# Altium schematic symbol library 17-Relays 继电器.SchLib: 79 symbols
Pins are listed as number, name and electrical type; pins without a type are passive.

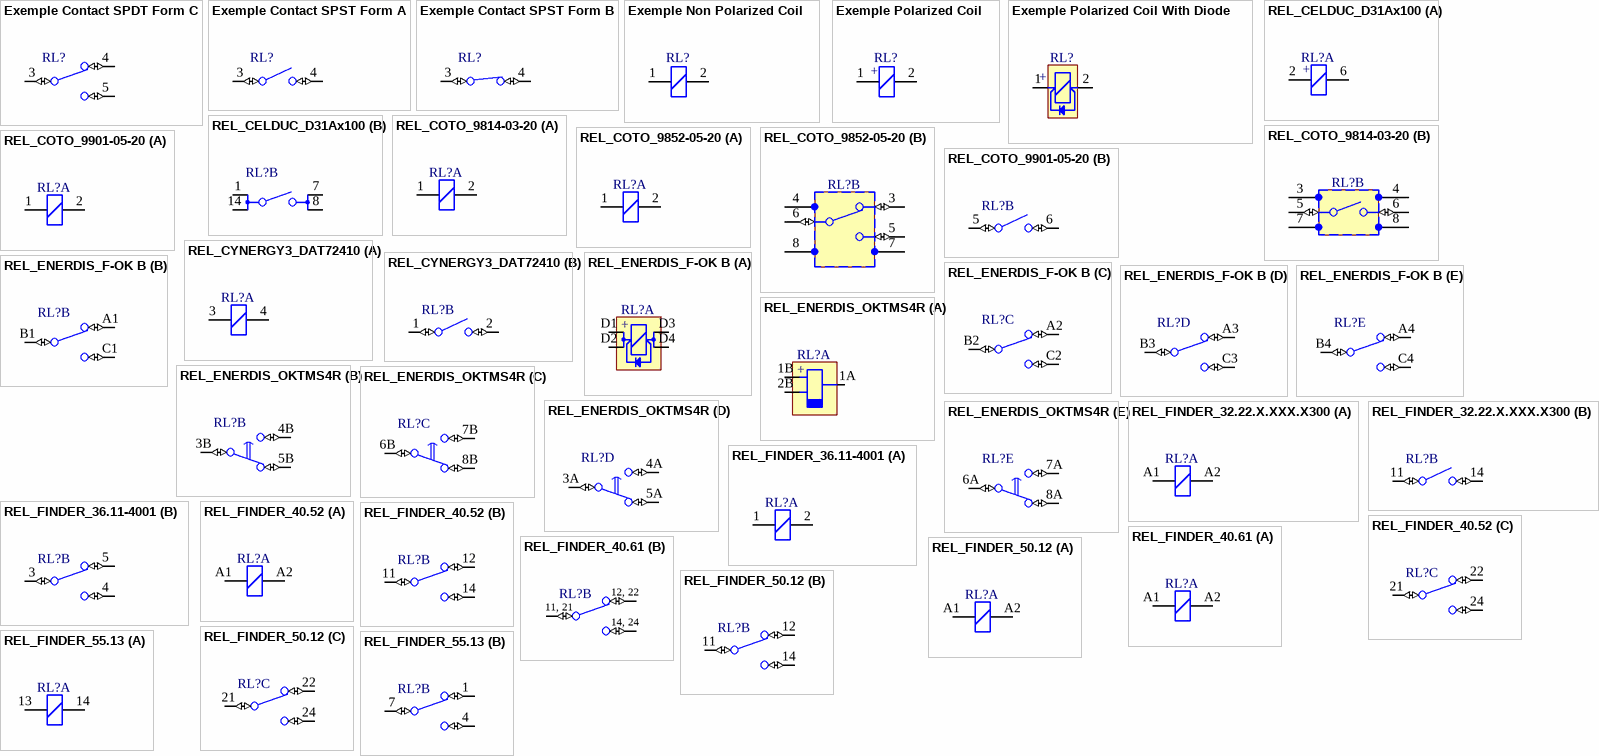
[diagram p0: symbols Exemple Contact SPDT Form C to REL_FINDER_55.13]

## Exemple Contact SPDT Form C
designator RL?  (value not drawn)
Contact : Single Pole Double Throw Form C
pins: 3 C (io), 4 NC (io), 5 NO (io)

## Exemple Contact SPST Form A
designator RL?  (value not drawn)
Contact : Single Pole Single Throw Form A
pins: 3 C (io), 4 NO (io)

## Exemple Contact SPST Form B
designator RL?  (value not drawn)
Contact : Single Pole Single Throw Form B
pins: 3 C (io), 4 NC (io)

## Exemple Non Polarized Coil
designator RL?
Polarized Coil
pins: 1 BO+, 2 BO-

## Exemple Polarized Coil
designator RL?
Polarized Coil
pins: 1, 2
text: +

## Exemple Polarized Coil With Diode
designator RL?
Polarized Coil With Diode
pins: 1, 2
text: +

## REL_CELDUC_D31Ax100
designator RL?  (value not drawn)
Dual In-Line Reed SPST Form A Relays
part A pins: 2, 6
part B pins: 1 C (io), 7 NC (io), 8 NC (io), 14 C (io)
part A text: +

## REL_COTO_9814-03-20
designator RL?  (value not drawn)
SMD SPST Reed Relay  (J-Lead Version)
part A pins: 1, 2
part B pins: 3, 4, 5 (io), 6 (io), 7, 8

## REL_COTO_9852-05-20
designator RL?  (value not drawn)
SMD SPDT Reed Relay  (J-Lead Version)
part A pins: 1, 2
part B pins: 3 (io), 4, 5 (io), 6 (io), 7, 8

## REL_COTO_9901-05-20
designator RL?  (value not drawn)
SMD SPST Reed Relay  (J-Lead Version)
part A pins: 1, 2
part B pins: 5 (io), 6 (io)

## REL_CYNERGY3_DAT72410
designator RL?  (value not drawn)
10kV 50W High Voltage Reed Relays
part A pins: 3, 4
part B pins: 1 (io), 2 (io)

## REL_ENERDIS_F-OK B
designator RL?  (value not drawn)
10A, Plug-in Relays with 4 Double-Break Changeover Contacts, ENERDIS F-OK Serie
part A pins: D1, D2, D3, D4
part B pins: A1 (io), B1 (io), C1 (io)
part C pins: A2 (io), B2 (io), C2 (io)
part D pins: A3 (io), B3 (io), C3 (io)
part E pins: A4 (io), B4 (io), C4 (io)
part A text: +

## REL_ENERDIS_OKTMS4R
designator RL?  (value not drawn)
10A, 4 Changeover Contacts, Programmable Off Time-Delay Relay, ENERDIS OK tms Serie
part A pins: 1A, 1B, 2B
part B pins: 3B (io), 4B (io), 5B (io)
part C pins: 6B (io), 7B (io), 8B (io)
part D pins: 3A (io), 4A (io), 5A (io)
part E pins: 6A (io), 7A (io), 8A (io)
part A text: +

## REL_FINDER_32.22.X.XXX.X300
designator RL?  (value not drawn)
1 NO (SPST-NO), 6 A PCB Mount Subminiature Relays, 32 Serie
part A pins: A1, A2
part B pins: 11 (io), 14 (io)

## REL_FINDER_36.11-4001
designator RL?  (value not drawn)
10A SPDT PCB Relay, 36 Serie
part A pins: 1 COIL, 2 COIL
part B pins: 3 C (io), 4 NO (io), 5 NC (io)

## REL_FINDER_40.52
designator RL?  (value not drawn)
16A DPDT PCB Relay, 40.52 Serie
part A pins: A1 COIL, A2 COIL
part B pins: 11 C (io), 12 NC (io), 14 NO (io)
part C pins: 21 C (io), 22 NC (io), 24 NO (io)

## REL_FINDER_40.61
designator RL?  (value not drawn)
16A SPDT PCB Relay, 40.61 Serie
part A pins: A1 COIL, A2 COIL
part B pins: 11 C (io), 12 NC (io), 14 NO (io), 21 C (io), 22 NC (io), 24 NO (io)
part B text: 12, 22; 11, 21; 14, 24

## REL_FINDER_50.12
designator RL?  (value not drawn)
8A 2 Pole PCB Relay, 50.12 Serie
part A pins: A1 COIL, A2 COIL
part B pins: 11 C (io), 12 NC (io), 14 NO (io)
part C pins: 21 C (io), 22 NC (io), 24 NO (io)

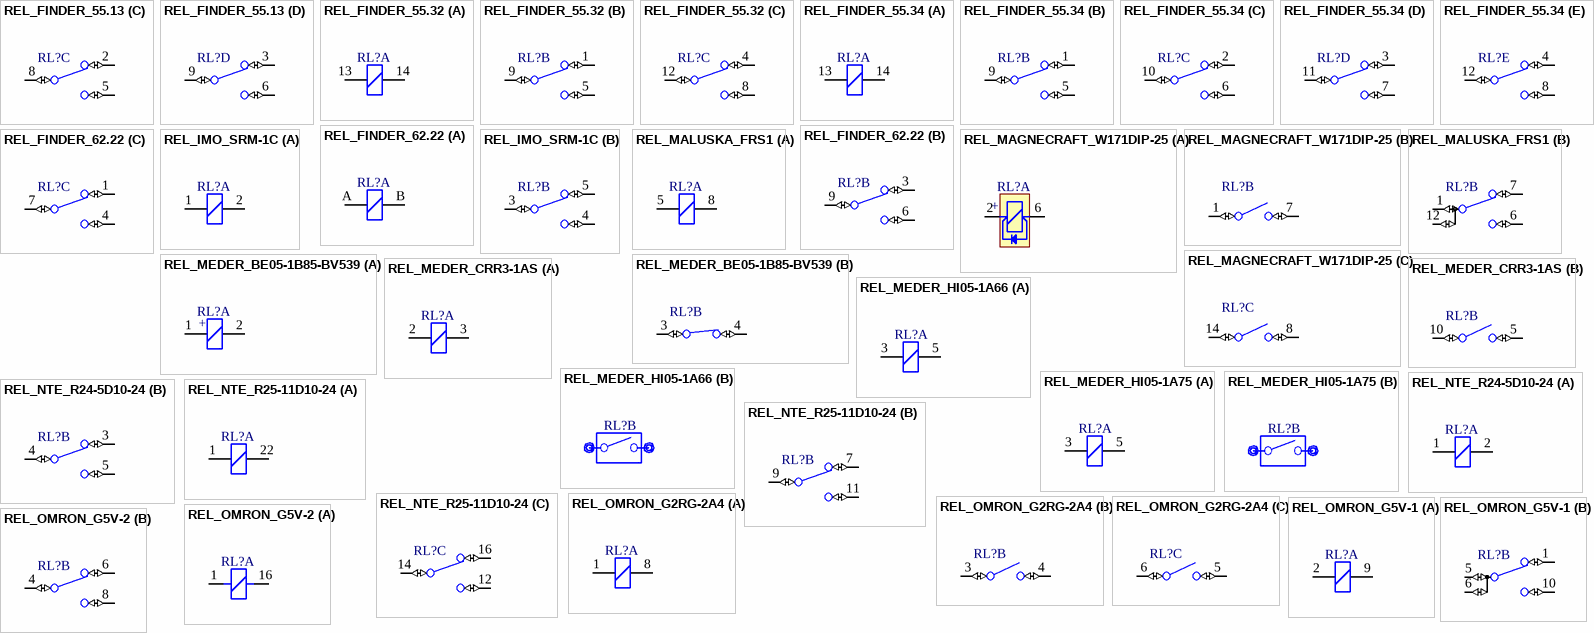
[diagram p1: symbols REL_FINDER_55.13 to REL_OMRON_G5V-2]

## REL_FINDER_55.13
designator RL?  (value not drawn)
10A, 3xSPDT General Purpose Relay, 55 Serie
part A pins: 13 COIL, 14 COIL
part B pins: 1 NC (io), 4 NO (io), 7 C (io)
part C pins: 2 NC (io), 5 NO (io), 8 C (io)
part D pins: 3 NC (io), 6 NO (io), 9 C (io)

## REL_FINDER_55.32
designator RL?  (value not drawn)
DPDT General Purpose Relay, 55.32 Serie (Must be Used with FINDER 94.12 Socket)
part A pins: 13 A1, 14 A2
part B pins: 1 12 (io), 5 14 (io), 9 11 (io)
part C pins: 4 42 (io), 8 44 (io), 12 41 (io)

## REL_FINDER_55.34
designator RL?  (value not drawn)
DPDT General Purpose Relay, 55.34 Serie (Must be Used with FINDER 94.14 Socket)
part A pins: 13 A1, 14 A2
part B pins: 1 12 (io), 5 14 (io), 9 11 (io)
part C pins: 2 22 (io), 6 24 (io), 10 21 (io)
part D pins: 3 32 (io), 7 34 (io), 11 31 (io)
part E pins: 4 42 (io), 8 44 (io), 12 41 (io)

## REL_FINDER_62.22
designator RL?  (value not drawn)
16A, DPDT Power Relay, 62.22 Serie
part A pins: A COIL, B COIL
part B pins: 3 NC (io), 6 NO (io), 9 C (io)
part C pins: 1 NC (io), 4 NO (io), 7 C (io)

## REL_IMO_SRM-1C
designator RL?  (value not drawn)
10A SPDT PCB Relay, SMR Serie
part A pins: 1 COIL, 2 COIL
part B pins: 3 C (io), 4 NO (io), 5 NC (io)

## REL_MAGNECRAFT_W171DIP-25
designator RL?  (value not drawn)
DPST-NO Magnecraft® PCB & Reed Relay, 171DIP Serie
part A pins: 2 CO+, 6 CO-
part B pins: 1 C (io), 7 NO (io)
part C pins: 8 NO (io), 14 C (io)
part A text: +

## REL_MALUSKA_FRS1
designator RL?  (value not drawn)
SPDT PCB Relay
part A pins: 5, 8
part B pins: 1 C (io), 6 NO (io), 7 NC (io), 12 C (io)

## REL_MEDER_BE05-1B85-BV539
designator RL?  (value not drawn)
1 Form B (SPST Normaly Close) Reed Relay
part A pins: 1 COIL+, 2 COIL-
part B pins: 3 C (io), 4 NC (io)
part A text: +

## REL_MEDER_CRR3-1AS
designator RL?  (value not drawn)
SMD SPST Reed Relay  (BGA Pin Version)
part A pins: 2, 3
part B pins: 5 (io), 10 (io)

## REL_MEDER_HI05-1A66
designator RL?  (value not drawn)
High Insulation Reed Relay
pins on every part: 4 (io) hidden, 6 hidden
part A pins: 3 B1, 5 B2

## REL_MEDER_HI05-1A75
designator RL?  (value not drawn)
High Insulation Reed Relay
pins on every part: 4 (io) hidden, 6 hidden
part A pins: 3 B1, 5 B2

## REL_NTE_R24-5D10-24
designator RL?  (value not drawn)
10A SPDT PCB Relay, R24 Serie
part A pins: 1 COIL, 2 COIL
part B pins: 3 NC (io), 4 C (io), 5 NO (io)

## REL_NTE_R25-11D10-24
designator RL?  (value not drawn)
10A DPDT PCB Relay, R25 Serie
part A pins: 1 COIL, 22 COIL
part B pins: 7 NC (io), 9 C (io), 11 NO (io)
part C pins: 12 NO (io), 14 C (io), 16 NC (io)

## REL_OMRON_G2RG-2A4
designator RL?  (value not drawn)
DPST-NO Power Relay, G2RG Serie
part A pins: 1, 8
part B pins: 3 C (io), 4 NO (io)
part C pins: 5 NO (io), 6 C (io)

## REL_OMRON_G5V-1
designator RL?  (value not drawn)
SPDT PCB Relay
part A pins: 2, 9
part B pins: 1 NC (io), 5 C (io), 6 C (io), 10 NO (io)

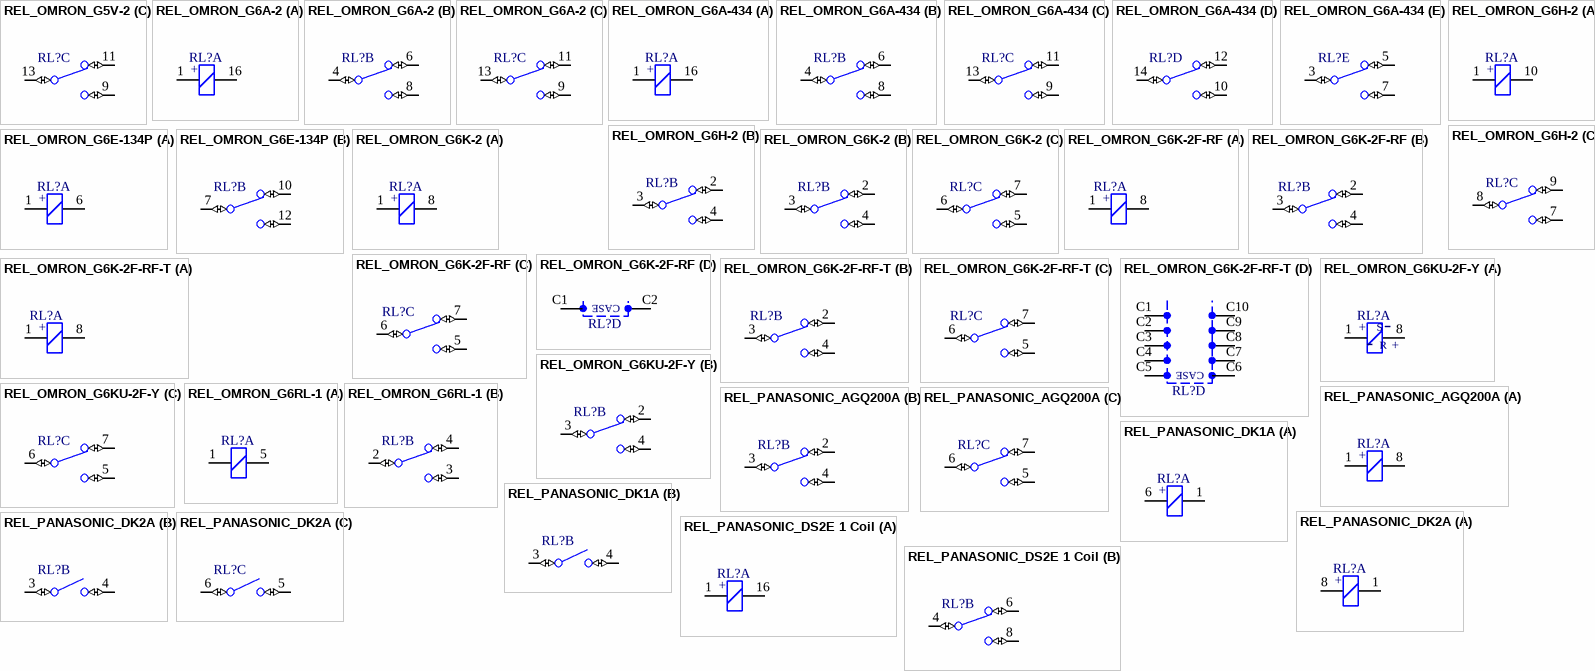
[diagram p2: symbols REL_OMRON_G5V-2 to REL_PANASONIC_DS2E 1 Coil]

## REL_OMRON_G5V-2
designator RL?  (value not drawn)
Miniature Relay for Signal Circuits
part A pins: 1, 16
part B pins: 4 C (io), 6 NC (io), 8 NO (io)
part C pins: 9 NO (io), 11 NC (io), 13 C (io)

## REL_OMRON_G6A-2
designator RL?  (value not drawn)
DPDT High Sensitivity Signal Relay, G6A-2 Serie
part A pins: 1, 16
part B pins: 4 C (io), 6 NC (io), 8 NO (io)
part C pins: 9 NO (io), 11 NC (io), 13 C (io)
part A text: +

## REL_OMRON_G6A-434
designator RL?  (value not drawn)
4PDT, Single-Side Stable, Plastic-sealed Relay, G6A-434 Model
part A pins: 1, 16
part B pins: 4 C (io), 6 NC (io), 8 NO (io)
part C pins: 9 NO (io), 11 NC (io), 13 C (io)
part D pins: 10 NO (io), 12 NC (io), 14 C (io)
part E pins: 3 C (io), 5 NC (io), 7 NO (io)
part A text: +

## REL_OMRON_G6E-134P
designator RL?  (value not drawn)
SPDT PCB Relay
part A pins: 1 COIL+, 6 COIL-
part B pins: 7 C (io), 10 NC (io), 12 NO (io)
part A text: +

## REL_OMRON_G6H-2
designator RL?  (value not drawn)
DPDT Signal Relay, Ultracompact and Ultrasensitive, G6H-2 Serie
part A pins: 1, 10
part B pins: 2 NC (io), 3 C (io), 4 NO (io)
part C pins: 7 NO (io), 8 C (io), 9 NC (io)
part A text: +

## REL_OMRON_G6K-2
designator RL?  (value not drawn)
DPDT Subminiature Relay, G6K-2 Serie
part A pins: 1, 8
part B pins: 2 NC (io), 3 C (io), 4 NO (io)
part C pins: 5 NO (io), 6 C (io), 7 NC (io)
part A text: +

## REL_OMRON_G6K-2F-RF
designator RL?  (value not drawn)
DPDT Subminiature Relay, G6K-2F-RF
part A pins: 1, 8
part B pins: 2 NC (io), 3 C (io), 4 NO (io)
part C pins: 5 NO (io), 6 C (io), 7 NC (io)
part D pins: C1 CASE, C2 CASE
part A text: +

## REL_OMRON_G6K-2F-RF-T
designator RL?  (value not drawn)
DPDT Subminiature Relay, G6K-2F-RF-T
part A pins: 1, 8
part B pins: 2 NC (io), 3 C (io), 4 NO (io)
part C pins: 5 NO (io), 6 C (io), 7 NC (io)
part D pins: C1 CASE, C2 CASE, C3 CASE, C4 CASE, C5 CASE, C6 CASE, C7 CASE, C8 CASE, C9 CASE, C10 CASE
part A text: +

## REL_OMRON_G6KU-2F-Y
designator RL?  (value not drawn)
Single-Winding Latching DPDT Subminiature SMD Relay, G6KU Serie
part A pins: 1, 8
part B pins: 2 NC (io), 3 C (io), 4 NO (io)
part C pins: 5 NO (io), 6 C (io), 7 NC (io)
part A text: +; S; -; R

## REL_OMRON_G6RL-1
designator RL?  (value not drawn)
SPDT PCB Relay
part A pins: 1, 5
part B pins: 2 C (io), 3 NO (io), 4 NC (io)

## REL_PANASONIC_AGQ200A
designator RL?  (value not drawn)
2A Single Side Stable 2 Form C SMD Low Signal Relays, GQ Serie
part A pins: 1, 8
part B pins: 2 NC (io), 3 C (io), 4 NO (io)
part C pins: 5 NO (io), 6 C (io), 7 NC (io)
part A text: +

## REL_PANASONIC_DK1A
designator RL?  (value not drawn)
1 Form B (SPST Normaly Close) Reed Relay
part A pins: 1 COIL-, 6 COIL+
part B pins: 3 C (io), 4 NO (io)
part A text: +

## REL_PANASONIC_DK2A
designator RL?  (value not drawn)
2 Form A (DPST Normaly Open) Relay
part A pins: 1 COIL-, 8 COIL+
part B pins: 3 C (io), 4 NO (io)
part C pins: 5 NC (io), 6 C (io)
part A text: +

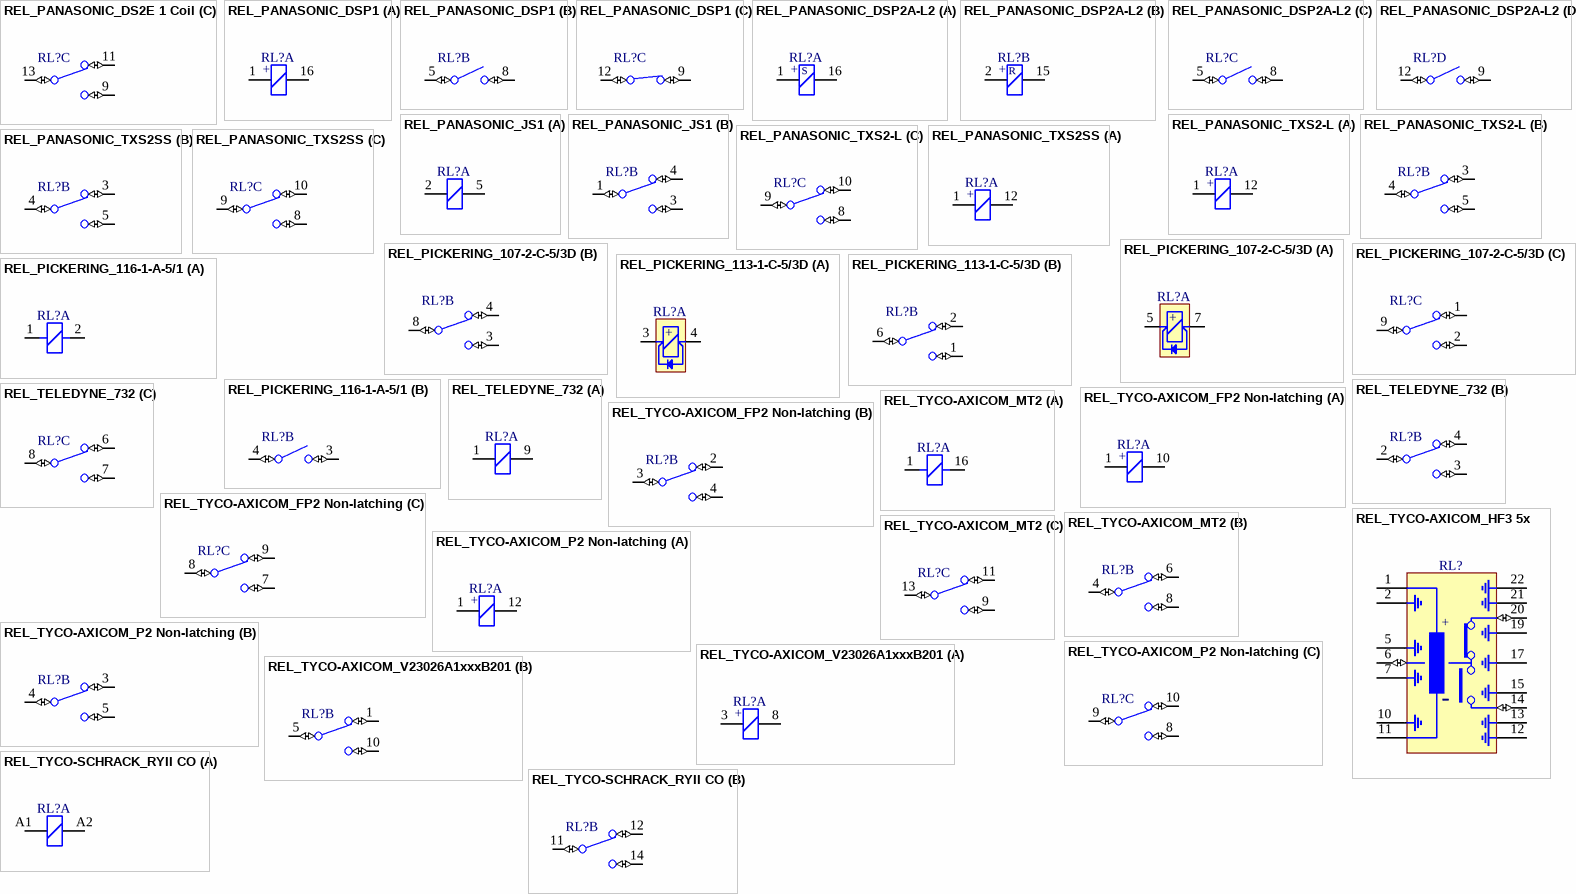
[diagram p3: symbols REL_PANASONIC_DS2E 1 Coil to REL_TYCO-SCHRACK_RYII CO]

## REL_PANASONIC_DS2E 1 Coil
designator RL?  (value not drawn)
DS Serie Surge Breakdown Voltage Miniature Relay
part A pins: 1, 16
part B pins: 4 C (io), 6 NC (io), 8 NO (io)
part C pins: 9 NO (io), 11 NC (io), 13 C (io)
part A text: +

## REL_PANASONIC_DSP1
designator RL?  (value not drawn)
1 Form A (SPST Normaly Open) 1 Form B Reed (SPST Normaly Close) Relay
part A pins: 1 COIL+, 16 COIL-
part B pins: 5 C (io), 8 NO (io)
part C pins: 9 NC (io), 12 C (io)
part A text: +

## REL_PANASONIC_DSP2A-L2
designator RL?  (value not drawn)
2 Form A (DPST Normaly Open) Coil Latching Relay
part A pins: 1 COIL+, 16 COIL-
part B pins: 2 COIL+, 15 COIL-
part C pins: 5 C (io), 8 NO (io)
part D pins: 9 NC (io), 12 C (io)
part A text: S; +
part B text: R; +

## REL_PANASONIC_JS1
designator RL?  (value not drawn)
10A SPDT PCB Relay, JS Serie
part A pins: 2 COIL, 5 COIL
part B pins: 1 C (io), 3 NO (io), 4 NC (io)

## REL_PANASONIC_TXS2-L
designator RL?  (value not drawn)
DPDT, 1 coil latching, Very high sensitivity (50mW) Relay, TX-S Serie
part A pins: 1, 12
part B pins: 3 NC (io), 4 C (io), 5 NO (io)
part C pins: 8 NO (io), 9 C (io), 10 NC (io)
part A text: +

## REL_PANASONIC_TXS2SS
designator RL?  (value not drawn)
DPDT, Single Side Stable, Ultra high sensitivity (50mW) SMD Polarized Relay, TX-S Serie  realized, Surface Mount Relay TX-S Serie
part A pins: 1, 12
part B pins: 3 NC (io), 4 C (io), 5 NO (io)
part C pins: 8 NO (io), 9 C (io), 10 NC (io)
part A text: +

## REL_PICKERING_107-2-C-5/3D
designator RL?  (value not drawn)
DPDT (2 Form C) Reed Relay,  For Stacking On 0.2Inches Pitch, 107 Serie
part A pins: 5 COIL+, 7 COIL-
part B pins: 3 NO (io), 4 NC (io), 8 C (io)
part C pins: 1 NC (io), 2 NO (io), 9 C (io)
part A text: +

## REL_PICKERING_113-1-C-5/3D
designator RL?  (value not drawn)
SPDT (1 Form C) Reed Relay,  For Stacking On 0.15x0.5 Inches Pitch, 113 Serie
part A pins: 3 COIL+, 4 COIL-
part B pins: 1 NO (io), 2 NC (io), 6 C (io)
part A text: +

## REL_PICKERING_116-1-A-5/1
designator RL?  (value not drawn)
SPST (1 Form A) Very High Packing Density SIL Reed Relay, 116 Serie
part A pins: 1 BO, 2 BO
part B pins: 3 NO (io), 4 C (io)

## REL_TELEDYNE_732
designator RL?  (value not drawn)
DPDT Non-latching Commercial Sensitive Basic Relay
part A pins: 1, 9
part B pins: 2 C (io), 3 NO (io), 4 NC (io)
part C pins: 6 NC (io), 7 NO (io), 8 C (io)

## REL_TYCO-AXICOM_FP2 Non-latching
designator RL?  (value not drawn)
FP2 Signal Relay (Non-latching type)
part A pins: 1, 10
part B pins: 2 NC (io), 3 C (io), 4 NO (io)
part C pins: 7 NO (io), 8 C (io), 9 NC (io)
part A text: +

## REL_TYCO-AXICOM_HF3 5x
designator RL?  (value not drawn)
SMD SPDT RF Signal Relays (Monostable 1 Coil)
pins: 1 COIL+, 2 GND, 5 GND, 6 (io), 7 GND, 10 GND, 11 COIL-, 12 GND, 13 GND, 14 NO (io), 15 GND, 17 GND, 19 GND, 20 NC (io), 21 GND, 22 GND
text: +; -

## REL_TYCO-AXICOM_MT2
designator RL?  (value not drawn)
DPDT Signal and RF Relay, MT2 Serie
part A pins: 1, 16
part B pins: 4 C (io), 6 NC (io), 8 NO (io)
part C pins: 9 NO (io), 11 NC (io), 13 C (io)

## REL_TYCO-AXICOM_P2 Non-latching
designator RL?  (value not drawn)
P2 Signal Relay (Non-latching type)
part A pins: 1, 12
part B pins: 3 NC (io), 4 C (io), 5 NO (io)
part C pins: 8 NO (io), 9 C (io), 10 NC (io)
part A text: +

## REL_TYCO-AXICOM_V23026A1xxxB201
designator RL?  (value not drawn)
1A SPDT (1 form C (CO) PCB Relay, V23026 Serie
part A pins: 3 COIL, 8 COIL
part B pins: 1 NC (io), 5 C (io), 10 NO (io)
part A text: +

## REL_TYCO-SCHRACK_RYII CO
designator RL?  (value not drawn)
RYII PCB Relay Form C (1 CO Contact)
part A pins: A1, A2
part B pins: 11 C (io), 12 NC (io), 14 NO (io)

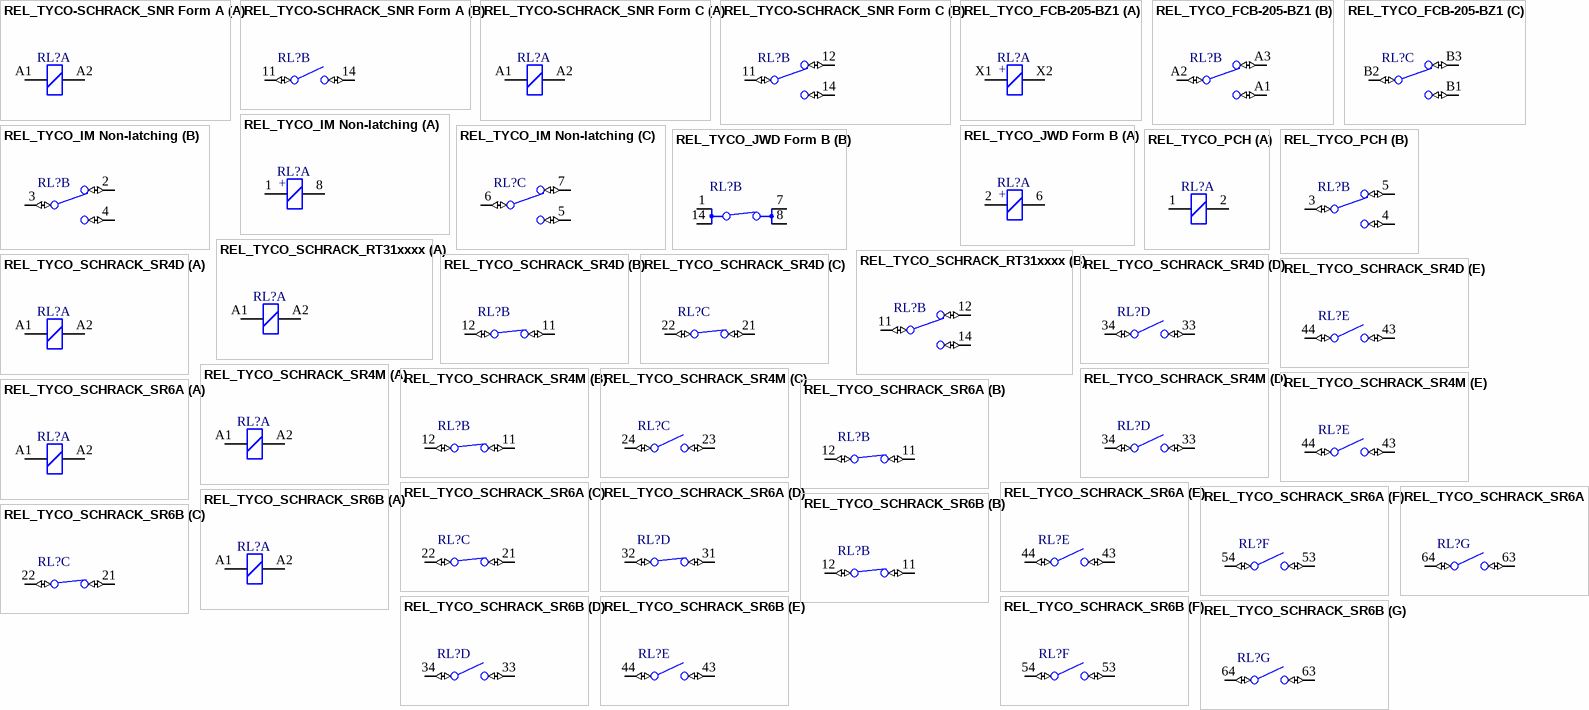
[diagram p4: symbols REL_TYCO-SCHRACK_SNR Form A to REL_TYCO_SCHRACK_SR6B]

## REL_TYCO-SCHRACK_SNR Form A
designator RL?  (value not drawn)
SNR Slim PCB Relay Form A (1 NO Contact)
part A pins: A1, A2
part B pins: 11 C (io), 14 NO (io)

## REL_TYCO-SCHRACK_SNR Form C
designator RL?  (value not drawn)
SNR Slim PCB Relay Form C (1 CO Contact)
part A pins: A1, A2
part B pins: 11 C (io), 12 NC (io), 14 NO (io)

## REL_TYCO_FCB-205-BZ1
designator RL?  (value not drawn)
FCB-205 Serie Mid-Range Military/Aerospace Relays 5 AMPERES, DPDT
part A pins: X1, X2
part B pins: A1 NO (io), A2 C (io), A3 NC (io)
part C pins: B1 NO (io), B2 C (io), B3 NC (io)
part A text: +

## REL_TYCO_IM Non-latching
designator RL?  (value not drawn)
IM Signal Relay (Monostable 1 Coil Non-latching)
part A pins: 1, 8
part B pins: 2 NC (io), 3 C (io), 4 NO (io)
part C pins: 5 NO (io), 6 C (io), 7 NC (io)
part A text: +

## REL_TYCO_JWD Form B
designator RL?  (value not drawn)
Dual In-Line Package Dry Reed Relays Form B (1 NC Contact)
part A pins: 2, 6
part B pins: 1 C (io), 7 NC (io), 8 NC (io), 14 C (io)
part A text: +

## REL_TYCO_PCH
designator RL?  (value not drawn)
5A SPDT PCB Relay, PCH Serie
part A pins: 1 COIL, 2 COIL
part B pins: 3 C (io), 4 NO (io), 5 NC (io)

## REL_TYCO_SCHRACK_RT31xxxx
designator RL?  (value not drawn)
RT PCB Relay Form C (1 CO Contact)
part A pins: A1, A2
part B pins: 11 C (io), 12 NC (io), 14 NO (io)

## REL_TYCO_SCHRACK_SR4D
designator RL?  (value not drawn)
8A 250VAC, 4 Poles (2 Form A (NO) + 2 Form B (NC)) Relay With Force Guided Contacts, SR4 Serie
part A pins: A1, A2
part B pins: 11 NC (io), 12 C (io)
part C pins: 21 NC (io), 22 C (io)
part D pins: 33 NO (io), 34 C (io)
part E pins: 43 NO (io), 44 C (io)

## REL_TYCO_SCHRACK_SR4M
designator RL?  (value not drawn)
8A 250VAC, 4 Poles (3 Form A (NO) + 1 Form B (NC)) Relay With Force Guided Contacts, SR4 Serie
part A pins: A1, A2
part B pins: 11 NC (io), 12 C (io)
part C pins: 23 C (io), 24 NO (io)
part D pins: 33 NO (io), 34 C (io)
part E pins: 43 NO (io), 44 C (io)

## REL_TYCO_SCHRACK_SR6A
designator RL?  (value not drawn)
8A 250VAC, 6 Poles (3 Form A (NO) + 3 Form B (NC)) Relay With Force Guided Contacts, SR6 Serie
part A pins: A1, A2
part B pins: 11 NC (io), 12 C (io)
part C pins: 21 NC (io), 22 C (io)
part D pins: 31 NC (io), 32 C (io)
part E pins: 43 NO (io), 44 C (io)
part F pins: 53 NO (io), 54 C (io)
part G pins: 63 NO (io), 64 C (io)

## REL_TYCO_SCHRACK_SR6B
designator RL?  (value not drawn)
8A 250VAC, 6 Poles (4 Form A (NO) + 2 Form B (NC)) Relay With Force Guided Contacts, SR6 Serie
part A pins: A1, A2
part B pins: 11 NC (io), 12 C (io)
part C pins: 21 NC (io), 22 C (io)
part D pins: 33 NC (io), 34 C (io)
part E pins: 43 NO (io), 44 C (io)
part F pins: 53 NO (io), 54 C (io)
part G pins: 63 NO (io), 64 C (io)

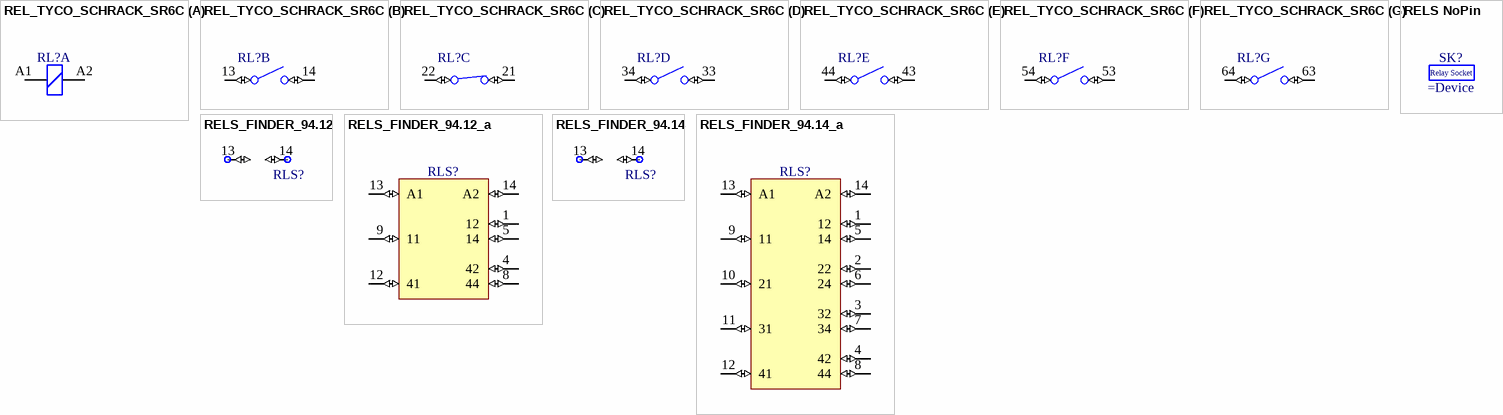
[diagram p5: symbols REL_TYCO_SCHRACK_SR6C to RELS_FINDER_94.14_a]

## REL_TYCO_SCHRACK_SR6C
designator RL?  (value not drawn)
8A 250VAC, 6 Poles (5 Form A (NO) + 1 Form B (NC)) Relay With Force Guided Contacts, SR6 Serie
part A pins: A1, A2
part B pins: 13 C (io), 14 NO (io)
part C pins: 21 NC (io), 22 C (io)
part D pins: 33 NO (io), 34 C (io)
part E pins: 43 NO (io), 44 C (io)
part F pins: 53 NO (io), 54 C (io)
part G pins: 63 NO (io), 64 C (io)

## RELS NoPin
designator SK?
No Pin Socket Relay
text: Relay Socket

## RELS_FINDER_94.12
designator RLS?  (value not drawn)
Blue Socket for FINDER 55.32 Relays, 94.12 Serie - Used with Relay
pins: 13 A1 (io), 14 A2 (io)

## RELS_FINDER_94.12_a
designator RLS?  (value not drawn)
Blue Socket for FINDER 55.32 Relays, 94.12 Serie - Used without Relay
pins: 1 12 (io), 4 42 (io), 5 14 (io), 8 44 (io), 9 11 (io), 12 41 (io), 13 A1 (io), 14 A2 (io)

## RELS_FINDER_94.14
designator RLS?  (value not drawn)
Blue Socket for FINDER 55.34 Relays, 94.14 Serie - Used with Relay
pins: 13 A1 (io), 14 A2 (io)

## RELS_FINDER_94.14_a
designator RLS?  (value not drawn)
Blue Socket for FINDER 55.34 Relays, 94.14 Serie - Used without Relay
pins: 1 12 (io), 2 22 (io), 3 32 (io), 4 42 (io), 5 14 (io), 6 24 (io), 7 34 (io), 8 44 (io), 9 11 (io), 10 21 (io), 11 31 (io), 12 41 (io), 13 A1 (io), 14 A2 (io)